# Altium footprint library PG-TDSON-8.PcbLib: 1 footprints
Each footprint in its own frame and in the unit in brackets; x right, y up, seen from the top. Pads: shape width x height; smd on the part's side, far side on the other; paste and mask are expansions set on the pad; w line width, h text height; cw(c..) or ccw(c..) is an arc to the next point about the centre after c.
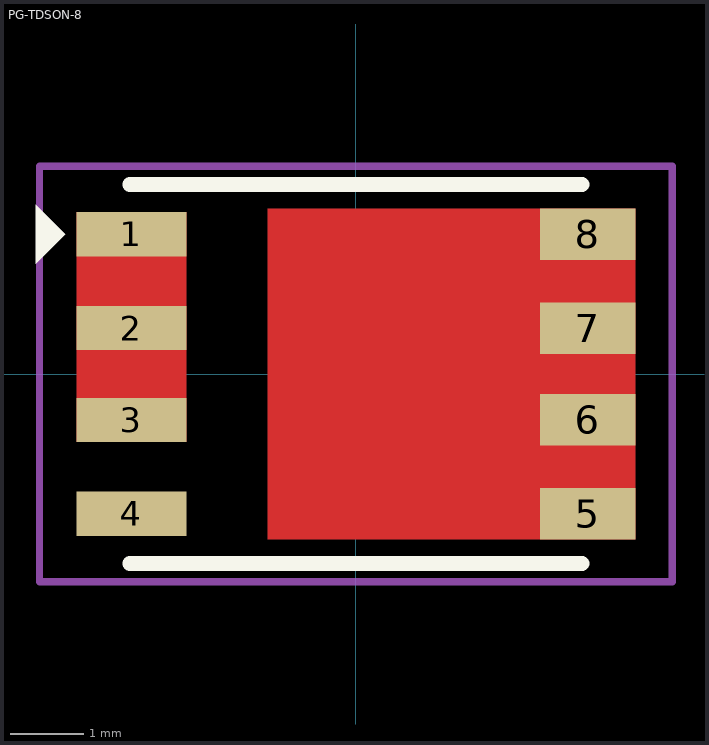
[diagram p0: the footprint, top view; thin cyan lines are the x and y axes]

## PG-TDSON-8 [mm]
pads (8):
  rect 1.5x0.6 smd: 1(-3.05,1.9) 2(-3.05,0.625) 3(-3.05,-0.625) 4(-3.05,-1.9)
  rect 1.3x0.7 smd: 5(3.15,-1.9) 6(3.15,-0.625) 7(3.15,0.625) 8(3.15,1.9)
Top Layer:
  rectangle: -3.8,-0.925 -2.3,2.2
  rectangle: -1.2,-2.25 3.8,2.25
Top Overlay:
  region: -4.35,1.5 -4.35,2.3 -3.95,1.9
  lines w0.2: -3.075,-2.575 3.075,-2.575 ; -3.075,2.575 3.075,2.575
Top Paste:
  rectangle: -0.95,-1.6 0.55,-0.1
  rectangle: 0.75,-1.6 2.25,-0.1
  rectangle: -0.95,0.1 0.55,1.6
  rectangle: 0.75,0.1 2.25,1.6
  rectangle: -2.7,-0.225 -2.4,0.25
  rectangle: -2.7,1.025 -2.4,1.5
Top Courtyard:
  lines w0.1: -4.3,-2.825 -4.3,2.825 4.3,2.825 4.3,-2.825 -3.075,-2.825 -4.3,-2.825
3D body "PG-TDSON-8.STEP": height 1, standoff 0, extent -3.075,-2.575 3.075,2.575